# Altium schematic symbol library Schematic Library.SchLib: 22 symbols
Pins are listed as number, name and electrical type; pins without a type are passive.

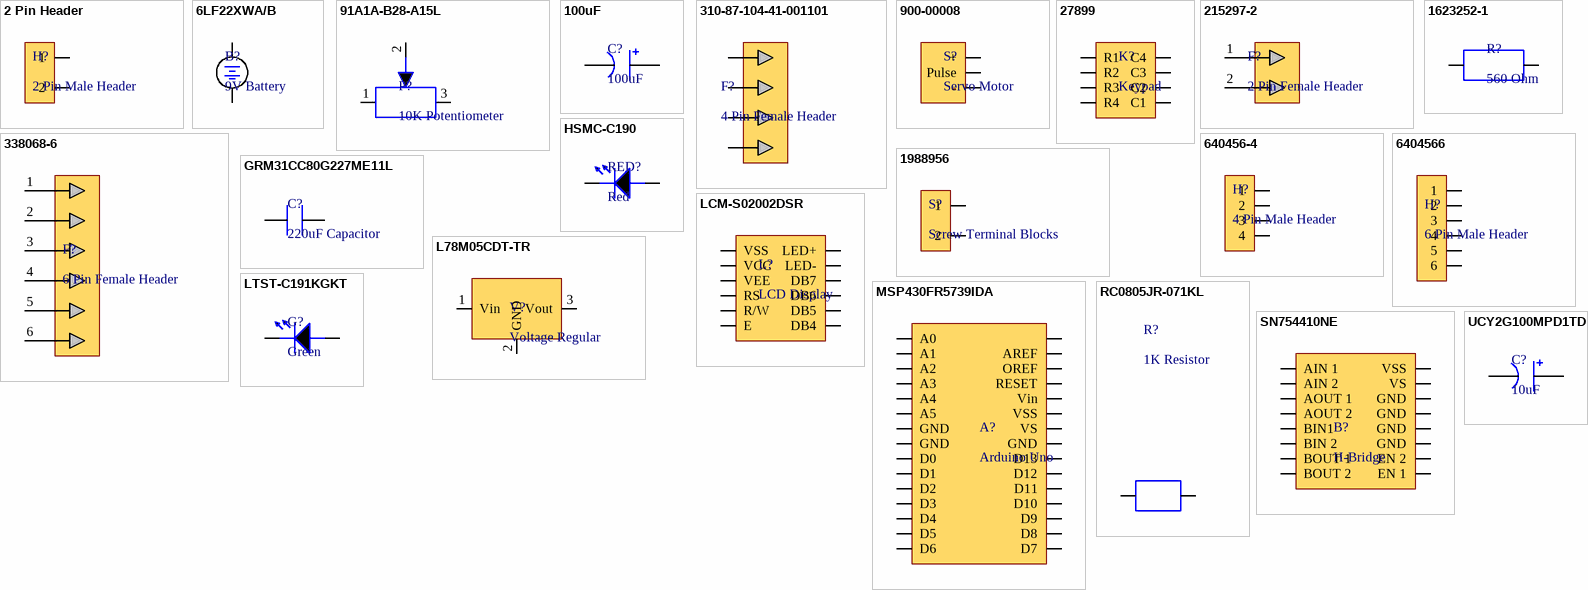
[diagram p0: symbols 2 Pin Header to UCY2G100MPD1TD]

## 2 Pin Header
designator H?, comment 2 Pin Male Header
Supplier 1: Digi-Key; Supplier Part Number 1: 900-0022232021-ND
footprint DC Motor
pins: 1, 2

## 6LF22XWA/B
designator B?, comment 9V Battery
BATTERY ALKALINE 9V; Manufacturer: Panasonic; Manufacturer Part Number: 6LF22XWA/B; Supplier 1: Digi-Key; Supplier Part Number 1: P687-ND; Stock 1: 27519; Pricing 1: 1=1.90000, 10=1.58300, 50=1.37860, 210=1.30290, 420=1.21200, 630=1.14383, 1050=1.07565, 2520=1.00748 (USD); RoHS: No; Weight: 45.59g; Min Operating Temperature: -20°C; Max Operating Temperature: 54°C; Termination: Snap in; Package Quantity: 210; Voltage Rating: 9V; Chemistry/Technology: Alkaline; Packaging: Bulk; Output Voltage: 9V; Length: 1.91inch; Height: 0.69inch; Width: 0.51inch; Lead Free: Lead Free; ComponentLink1URL: http://www.mouser.com/ds/2/315/panasonic_alkaline_batteries_9v_series_6lf22xwa-541606.pdf?src-supplier=Mouser; ComponentLink1Description: http://www.mouser.com/ds/2/315/panasonic_alkaline_batteries_9v_series_6lf22xwa-541606.pdf?src-supplier=Mouser; ComponentLink2URL: https://na.industrial.panasonic.com/sites/default/pidsa/files/downloads/files/panasonic-6lf22xwa-datasheet.pdf?src-supplier=Digi-Key; ComponentLink2Description: https://na.industrial.panasonic.com/sites/default/pidsa/files/downloads/files/panasonic-6lf22xwa-datasheet.pdf?src-supplier=Digi-Key
footprint 9V Battery
pins: 1 +, 2 -

## 91A1A-B28-A15L
designator P?, comment 10K Potentiometer
POT 10K OHM 2W CERMET LINEAR; Manufacturer: Bourns; Manufacturer Part Number: 91A1A-B28-A15L; Resistance: 10kR; Tolerance: 10%; Number of Gangs: 1; Temperature Coefficient: 150ppm/°C; Linearity: 5%; Actuator Length: 0.875inch; Actuator Diameter: 0.25inch; Ratings: IP40; Supplier 1: Digi-Key; Supplier Part Number 1: 91A1A-B28-A15L-ND; Stock 1: 109; Pricing 1: 1=5.91000, 10=5.41800, 25=4.82640, 50=4.53100, 100=4.13700, 250=3.34900, 500=3.15200, 1000=2.95500 (USD); RoHS: Yes; Mount: Panel,Through Hole; Weight: 0.447979oz; Contact Plating: Tin; Min Operating Temperature: -40°C; Max Operating Temperature: 125°C; Package Quantity: 5; Power Rating: 2W; Packaging: Bulk; Composition: Cermet; Taper: Linear; Number of Turns: 1; Termination: Pin; Military Standard: Not; Max Power Dissipation: 2W; Type: Potentiometer; Length: 34.93mm; Height: 12.7mm; Width: 15.88mm; Depth: 15.88mm; REACH SVHC: No SVHC; ComponentLink1URL: https://datasheet.ciiva.com/2153/91-95-2153328.pdf?src-supplier=Digi-Key; ComponentLink1Description: https://datasheet.ciiva.com/2153/91-95-2153328.pdf?src-supplier=Digi-Key; ComponentLink2URL: https://datasheet.ciiva.com/48425/91-95-series-eng-tds-48425289.pdf?src-supplier=Distrelec; ComponentLink2Description: https://datasheet.ciiva.com/48425/91-95-series-eng-tds-48425289.pdf?src-supplier=Distrelec; ComponentLink3URL: https://datasheet.ciiva.com/8057/91-95-8057790.pdf?src-supplier=Element14; ComponentLink3Description: https://datasheet.ciiva.com/8057/91-95-8057790.pdf?src-supplier=Element14; ComponentLink4URL: https://datasheet.ciiva.com/30090/90sers-30090414.pdf?src-supplier=Onlinecomponents.com; ComponentLink4Description: https://datasheet.ciiva.com/30090/90sers-30090414.pdf?src-supplier=Onlinecomponents.com; ComponentLink5URL: https://datasheet.ciiva.com/48692/001055304-da-01-en-pot-91a1a-b28-a15l-10kohm-16mm-2w-cermet-48692807.pdf?src-supplier=Conrad; ComponentLink5Description: https://datasheet.ciiva.com/48692/001055304-da-01-en-pot-91a1a-b28-a15l-10kohm-16mm-2w-cermet-48692807.pdf?src-supplier=Conrad
footprint 10K
pins: 1, 2, 3

## 100uF
designator C?
Supplier 1: Digi-Key; Supplier Part Number 1: 493-3938-6-ND
footprint 100uF
pins: 1, 2

## 310-87-104-41-001101
designator F?, comment 4 Pin Female Header
CONN SOCKET 4POS 0.1 GOLD PCB; Manufacturer: Preci-Dip; Manufacturer Part Number: 310-87-104-41-001101; Color: Black; Max Current Rating: 3A; Contact Resistance: 10mR; Number of Positions: 4; Max Voltage Rating (AC): 100V; Pitch: 2.54mm; RoHS: Yes; Mount: Through Hole; Contact Plating: Gold; Contact Material: Copper; Housing Material: Polychlorinated; Housing Color: Black; Min Operating Temperature: -55°C; Max Operating Temperature: 125°C; Package Quantity: 3400; Number of Rows: 1; Packaging: Bulk; Termination: Solder; Number of Contacts: 4; Connector Type: Socket; Orientation: Straight; Gender: Female; Length: 10.16mm; Depth: 2.54mm; ComponentLink1URL: https://datasheet.ciiva.com/6788/310-series-6788296.pdf?src-supplier=Digi-Key; ComponentLink1Description: https://datasheet.ciiva.com/6788/310-series-6788296.pdf?src-supplier=Digi-Key; Supplier 1: Future Electronics; Supplier Part Number 1: PPTC081LFBN-RC-TRAY
footprint 4 Female Header Pin
pins: 1, 2, 3, 4

## 900-00008
designator S?, comment Servo Motor
GEARMOTOR 6VDC SERVO; Manufacturer: Parallax; Manufacturer Part Number: 900-00008; Operating Supply Voltage: 6V; Mounting Hole Spacing: 1.988inch; Approvals: CE; Supplier 1: RSComponents; Supplier Part Number 1: 7813046; Stock 1: 60; Pricing 1: 1=12.03000, 5=11.56000, 10=11.07000 (GBP); RoHS: Yes; Weight: 0.094lb; Min Operating Temperature: -10°C; Max Operating Temperature: 50°C; Package Quantity: 1; Termination: Wire Leads; Length: 406mm; Height: 1inch; Width: 55.8mm; Depth: 19mm; ComponentLink1URL: https://datasheet.ciiva.com/4927/crservo-8470-4927809.pdf?src-supplier=Mouser; ComponentLink1Description: https://datasheet.ciiva.com/4927/crservo-8470-4927809.pdf?src-supplier=Mouser; ComponentLink2URL: https://datasheet.ciiva.com/30483/0900766b8123f8a1-30483945.pdf?src-supplier=RSComponents; ComponentLink2Description: https://datasheet.ciiva.com/30483/0900766b8123f8a1-30483945.pdf?src-supplier=RSComponents; ComponentLink3URL: https://datasheet.ciiva.com/27048/283039-27048842.pdf?src-supplier=Jameco; ComponentLink3Description: https://datasheet.ciiva.com/27048/283039-27048842.pdf?src-supplier=Jameco; ComponentLink4URL: https://datasheet.ciiva.com/3330/900-00008-eng-tds-3330493.pdf?src-supplier=Distrelec; ComponentLink4Description: https://datasheet.ciiva.com/3330/900-00008-eng-tds-3330493.pdf?src-supplier=Distrelec; ComponentLink5URL: https://datasheet.ciiva.com/2099/900-00008-continuous-rotation-servo-documentation-v2-2-2099203.pdf?src-supplier=Digi-Key; ComponentLink5Description: https://datasheet.ciiva.com/2099/900-00008-continuous-rotation-servo-documentation-v2-2-2099203.pdf?src-supplier=Digi-Key
footprint Servo Motor
pins: 1 +, 2 Pulse, 3 -

## 27899
designator K?, comment Keypad
SWITCH KEYPAD 16 KEY NON-ILLUM; Manufacturer: Parallax; Manufacturer Part Number: 27899; Max Current Rating: 30mA; Supplier 1: Digi-Key; Supplier Part Number 1: 27899PAR-ND; Stock 1: 34; Pricing 1: 1=6.50000 (USD); RoHS: Yes; Package Quantity: 1; ComponentLink1URL: https://datasheet.ciiva.com/19453/2161473-19453254.pdf?src-supplier=Jameco; ComponentLink1Description: https://datasheet.ciiva.com/19453/2161473-19453254.pdf?src-supplier=Jameco; ComponentLink2URL: https://datasheet.ciiva.com/12466/27899-4x4matrixmembranekeypad-v1-2-33055-12466600.pdf?src-supplier=Mouser; ComponentLink2Description: https://datasheet.ciiva.com/12466/27899-4x4matrixmembranekeypad-v1-2-33055-12466600.pdf?src-supplier=Mouser
footprint Keypad (SOIC, 8-Leads, Body 10.30x7.50mm, Pitch 1.27mm, IPC Medium Density)
pins: 1 R1, 2 R2, 3 R3, 4 R4, 5 C1, 6 C2, 7 C3, 8 C4

## 215297-2
designator F?, comment 2 Pin Female Header
Conn Socket Strip SKT 2 POS 2.54mm Solder ST Thru-Hole Automotive Tray; Manufacturer: TE Connectivity; Manufacturer Part Number: 215297-2; Color: Green; Current Rating: 3A; Contact Resistance: 12mR; Voltage Rating: 250V; Connector Type: Receptacle,Connector,Socket; Number of Positions: 2; Gender: Receptacle; PCB Mount Retention: With; PCB Mounting Orientation: Vertical; Sealable: No (Without); Stackable: Yes; PCB Thickness: 1.6mm; Tail Length: 3.1mm; Supplier 1: Digi-Key; Supplier Part Number 1: A106649-ND; Stock 1: 8242; Pricing 1: 1=0.72000, 10=0.63200, 100=0.54560, 500=0.44640, 1000=0.39680, 5000=0.37200 (USD); RoHS: Yes; Mount: Through Hole; Contact Plating: Gold,Tin; Contact Material: Bronze; Housing Color: Black; Housing Material: Polyester; Contact Shape: Square; Min Operating Temperature: -55°C; Max Operating Temperature: 105°C; Number of Rows: 1; Packaging: Tray; Contact Gender: Female; Package Quantity: 352; Termination: Solder; Number of Contacts: 2; Orientation: Straight; Contact Current Rating: 3A; Length: 5.08mm; Height: 7mm; Pitch: 2.54mm; Depth: 2.52mm; Contact Post Length: 3.1mm; REACH SVHC: No SVHC; ELV: Compliant; Flammability Rating: UL94 V-0; ComponentLink1URL: https://datasheet.ciiva.com/30185/2152972-30185520.pdf?src-supplier=Onlinecomponents.com; ComponentLink1Description: https://datasheet.ciiva.com/30185/2152972-30185520.pdf?src-supplier=Onlinecomponents.com; ComponentLink2URL: https://datasheet.ciiva.com/11747/0900766b805762f6-11747850.pdf?src-supplier=RSComponents; ComponentLink2Description: https://datasheet.ciiva.com/11747/0900766b805762f6-11747850.pdf?src-supplier=RSComponents; ComponentLink3URL: https://datasheet.ciiva.com/29369/001094888-da-01-en-buchsenleiste-1-reihig-0-0215297-2-29369951.pdf?src-supplier=Conrad; ComponentLink3Description: https://datasheet.ciiva.com/29369/001094888-da-01-en-buchsenleiste-1-reihig-0-0215297-2-29369951.pdf?src-supplier=Conrad; ComponentLink4URL: https://datasheet.ciiva.com/14120/215297serie-eng-tds-14120828.pdf?src-supplier=Distrelec; ComponentLink4Description: https://datasheet.ciiva.com/14120/215297serie-eng-tds-14120828.pdf?src-supplier=Distrelec; ComponentLink5URL: https://datasheet.ciiva.com/6857/eng-cd-215297-d-basefilename-6857455.pdf?src-supplier=Digi-Key; ComponentLink5Description: https://datasheet.ciiva.com/6857/eng-cd-215297-d-basefilename-6857455.pdf?src-supplier=Digi-Key
footprint 2 Pin Female Header
pins: 1, 2

## 338068-6
designator F?, comment 6 Pin Female Header
CONN FMALE-ON-BRD 6POS VERT T/H; Manufacturer: AMP - TE CONNECTIVITY; Manufacturer Part Number: 338068-6; Supplier 1: Digi-Key; Supplier Part Number 1: A121761-ND
footprint 6 Pin Female Header
pins: 1, 2, 3, 4, 5, 6

## 640456-4
designator H?, comment 4 Pin Male Header
CONN HEADER VERT 4POS 2.54MM; Manufacturer: TE Connectivity; Manufacturer Part Number: 640456-4; Contact Resistance: 6mR; Max Voltage Rating (AC): 250V; Current Rating: 5A; Number of Poles: 4; Connector Type: Plug,Header,Pin; Backwall/Post Interruptions: No (Without); Connector System: Wire-to-Board; Plating Thickness: 3.81um; Circuit Application: Signal; Contact Post Length: 3.56mm; PCB Thickness: 0.063inch; Tail Length: 0.14inch; Approvals: CSA; Supplier 1: Digi-Key; Supplier Part Number 1: A1922-ND; Stock 1: 54928; Pricing 1: 1=0.23000, 10=0.21400, 100=0.14850, 500=0.12568, 1000=0.10283, 5000=0.09141, 10000=0.08284 (USD); RoHS: Yes; Mount: Through Hole; Contact Plating: Tin; Contact Material: Copper Alloy; Color: Natural,Beige,White; Housing Color: Natural; Housing Material: Polyester; Contact Shape: Square; Min Operating Temperature: -67°C; Max Operating Temperature: 221°C; Packaging: Bulk; Number of Rows: 1; Voltage Rating (AC): 250V; Contact Gender: Male; Package Quantity: 5000; Voltage Rating: 250V; Fastening Type: Friction; Number of Positions: 4; Termination: Solder; Number of Contacts: 4; Working Voltage: 250V; Orientation: Straight; Contact Retention: No (Without); Mating Alignment: No (Without); Mating Retention: No (Without); PCB Mount Alignment: No (Without); Sealable: No (Without); Strain Relief: No (Without); Contact Current Rating: 5A; Length: 12.7mm; Height: 7.87mm; Pitch: 2.54mm; Lead Pitch: 2.54mm; Contact Mating Length: 0.295inch; Depth: 5.72mm; Radiation Hardening: No; REACH SVHC: No SVHC; Flammability Rating: UL94 V-0; ComponentLink1URL: https://datasheet.ciiva.com/36859/38054-36859312.pdf?src-supplier=Farnell; ComponentLink1Description: https://datasheet.ciiva.com/36859/38054-36859312.pdf?src-supplier=Farnell; ComponentLink2URL: https://datasheet.ciiva.com/19462/613958-19462402.pdf?src-supplier=Jameco; ComponentLink2Description: https://datasheet.ciiva.com/19462/613958-19462402.pdf?src-supplier=Jameco; ComponentLink3URL: https://datasheet.ciiva.com/25618/0900766b80eb7fdd-25618242.pdf?src-supplier=RSComponents; ComponentLink3Description: https://datasheet.ciiva.com/25618/0900766b80eb7fdd-25618242.pdf?src-supplier=RSComponents; ComponentLink4URL: https://datasheet.ciiva.com/16286/eng-ds-82056-mta-0608-16286228.pdf?src-supplier=Future+Electronics; ComponentLink4Description: https://datasheet.ciiva.com/16286/eng-ds-82056-mta-0608-16286228.pdf?src-supplier=Future+Electronics; ComponentLink5URL: https://datasheet.ciiva.com/11746/0900766b80027008-11746331.pdf?src-supplier=RSComponents; ComponentLink5Description: https://datasheet.ciiva.com/11746/0900766b80027008-11746331.pdf?src-supplier=RSComponents; ComponentLink6URL: https://datasheet.ciiva.com/14156/mta-cst-100-sl-156-eng-datasheet-14156822.pdf?src-supplier=Distrelec; ComponentLink6Description: https://datasheet.ciiva.com/14156/mta-cst-100-sl-156-eng-datasheet-14156822.pdf?src-supplier=Distrelec; ComponentLink7URL: https://datasheet.ciiva.com/14637/70083644-14637814.pdf?src-supplier=Allied+Electronics; ComponentLink7Description: https://datasheet.ciiva.com/14637/70083644-14637814.pdf?src-supplier=Allied+Electronics; ComponentLink8URL: https://datasheet.ciiva.com/709/eng-cd-640456-w2-709689.pdf?src-supplier=Digi-Key; ComponentLink8Description: https://datasheet.ciiva.com/709/eng-cd-640456-w2-709689.pdf?src-supplier=Digi-Key; ComponentLink9URL: https://datasheet.ciiva.com/16656/eng-ds-82056-mta-0608-16656524.pdf?src-supplier=Avnet+Europe; ComponentLink9Description: https://datasheet.ciiva.com/16656/eng-ds-82056-mta-0608-16656524.pdf?src-supplier=Avnet+Europe
footprint Header
pins: 1, 2, 3, 4

## 1623252-1
designator R?, comment 560 Ohm
Res Thick Film 0805 560 Ohm 1% 0.125W(1/8W) ±100ppm/°C Molded SMD; Manufacturer: TE Connectivity; Manufacturer Part Number: 1623252-1; Resistance: 560R; Max Power Dissipation: 125mW; Supplier 1: Digi-Key; Supplier Part Number 1: A126376CT-ND; Stock 1: 18530; Pricing 1: 1=0.10000, 10=0.04900, 100=0.02000, 1000=0.00898, 2500=0.00780 (USD); RoHS: Yes; Case/Package: 0805; Min Operating Temperature: -55°C; Max Operating Temperature: 125°C; Tolerance: 1%; Package Quantity: 5000; Packaging: Tape and Reel; Composition: Thick Film; Number of Terminations: 2; Temperature Coefficient: 100ppm/°C; Military Standard: Not; Length: 0.079inch; Height: 0.026inch; Width: 0.049inch; Depth: 1.25mm; Radiation Hardening: No; ComponentLink1URL: https://datasheet.ciiva.com/2530/eng-cd-1623252-ba-2530165.pdf?src-supplier=Digi-Key; ComponentLink1Description: https://datasheet.ciiva.com/2530/eng-cd-1623252-ba-2530165.pdf?src-supplier=Digi-Key; ComponentLink2URL: https://datasheet.ciiva.com/16904/eng-ds-1773204-f-16904630.pdf?src-supplier=Avnet+Europe; ComponentLink2Description: https://datasheet.ciiva.com/16904/eng-ds-1773204-f-16904630.pdf?src-supplier=Avnet+Europe; ComponentLink3URL: https://datasheet.ciiva.com/8903/eng-ds-1773204-f-8903597.pdf?src-supplier=Avnet; ComponentLink3Description: https://datasheet.ciiva.com/8903/eng-ds-1773204-f-8903597.pdf?src-supplier=Avnet
footprint 560
pins: 1, 2

## 1988956
designator S?, comment Screw Terminal Blocks
TERM BLOCK 2POS 45DEG 3.5MM PCB; Manufacturer: Phoenix Contact; Manufacturer Part Number: 1988956; Number of Poles: 2; Voltage Rating: 160V; Max Current Rating: 17.5A; Number of Levels: 1; Current: 10A; Voltage: 300V; Gender: Male; Wire Gauge (Max): 26AWG; Wire Gauge (Min): 16AWG; Approvals: UL; RoHS: Yes; Mount: Through Hole; Number of Pins: 2; Weight: 0.034216oz; Color: Green; Material: Polyamide; Housing Color: Green; Housing Material: Polyamide; Contact Material: Tin; Package Quantity: 250; Packaging: Bulk; Number of Rows: 1; Max Supply Voltage: 160V; Current Rating: 17.5A; Number of Positions Per Level: 2; Termination: Screw; Number of Positions: 2; Number of Contacts: 2; Number of Circuits: 2; Orientation: Straight; Length: 7mm; Height: 11.2mm; Width: 13.7mm; Pitch: 3.5mm; Depth: 11.2mm; Lead Free: Lead Free; Flammability Rating: UL94 V-0; ComponentLink1URL: https://datasheet.ciiva.com/16051/1988956-16051359.pdf?src-supplier=Onlinecomponents.com; ComponentLink1Description: https://datasheet.ciiva.com/16051/1988956-16051359.pdf?src-supplier=Onlinecomponents.com; ComponentLink2URL: https://datasheet.ciiva.com/26340/567541-da-01-de-printklemme-1988956-250-st-26340451.pdf?src-supplier=Conrad; ComponentLink2Description: https://datasheet.ciiva.com/26340/567541-da-01-de-printklemme-1988956-250-st-26340451.pdf?src-supplier=Conrad; ComponentLink3URL: https://datasheet.ciiva.com/824/combiconcompactseries-824224.pdf?src-supplier=Digi-Key; ComponentLink3Description: https://datasheet.ciiva.com/824/combiconcompactseries-824224.pdf?src-supplier=Digi-Key; ComponentLink4URL: https://datasheet.ciiva.com/14609/70055171-14609100.pdf?src-supplier=Allied+Electronics; ComponentLink4Description: https://datasheet.ciiva.com/14609/70055171-14609100.pdf?src-supplier=Allied+Electronics; Supplier 1: RSComponents; Supplier Part Number 1: 7176659
footprint Screw
pins: 1, 2

## 6404566
designator H?, comment 6 Pin Male Header
TE Connectivity MTA-100 Series, 2.54mm Pitch 6 Way 1 Row Straight PCB Header, Solder Termination, 5A; Manufacturer Part Number: 6404566; Contact Resistance: 6mR; Max Voltage Rating (AC): 250V; Number of Positions: 6; Connector Type: Connector,Pin,Plug,Header; Backwall/Post Interruptions: No (Without); Connector System: Wire-to-Board; Plating Thickness: 3.81um; PCB Mount Retention: Without; PCB Mounting Orientation: Vertical; Circuit Application: Signal; Mating Connector Lock: Yes (With); Contact Post Length: 3.56mm; PCB Thickness: 0.063inch; Tail Length: 0.14inch; Approvals: CSA; Supplier 1: Digi-Key; Supplier Part Number 1: A1923-ND; Manufacturer: TE Connectivity; Stock 1: 29664; Pricing 1: 1=0.310000, 10=0.294000, 100=0.206100, 500=0.176700, 1000=0.147250, 5000=0.126210, 10000=0.117800 (USD); RoHS: Yes; Mount: Through Hole; Contact Material: Copper Alloy; Contact Plating: Tin; Color: Beige,White; Housing Color: Natural; Housing Material: Polyester; Contact Shape: Square; Insulation Material: Thermoplastic; Insulation Color: Natural; Min Operating Temperature: -67°C; Max Operating Temperature: 221°C; Package Quantity: 2000; Packaging: Bulk; Contact Gender: Male; Number of Rows: 1; Fastening Type: Friction; Voltage Rating (AC): 250V; Termination: Solder; Number of Contacts: 6; Orientation: Straight; Contact Retention: No (Without); Mating Alignment: No (Without); Mating Retention: No (Without); PCB Mount Alignment: No (Without); Sealable: No (Without); Strain Relief: No (Without); Shrouded: No (Without); Contact Current Rating: 5A; Current Rating: 5A; Voltage Rating: 250V; Gender: Male; Panel Mount Retention: No (Without); Contact Style: Straight; Mounting Ears: No (Without); Length: 17.78mm; Height: 7.87mm; Pitch: 2.54mm; Depth: 5.72mm; Contact Mating Length: 7.49mm; Radiation Hardening: No; ELV: Compliant; Lead Free: Lead Free; Flammability Rating: UL94 V-0; REACH SVHC: No SVHC; ComponentLink1URL: https://datasheet.ciiva.com/11750/0900766b80027008-11750977.pdf?src-supplier=RSComponents; ComponentLink1Description: https://datasheet.ciiva.com/11750/0900766b80027008-11750977.pdf?src-supplier=RSComponents; ComponentLink2URL: https://datasheet.ciiva.com/25618/0900766b80eb7fdd-25618163.pdf?src-supplier=RSComponents; ComponentLink2Description: https://datasheet.ciiva.com/25618/0900766b80eb7fdd-25618163.pdf?src-supplier=RSComponents; ComponentLink3URL: https://datasheet.ciiva.com/3118/eng-ds-82056-mta-0608-3118501.pdf?src-supplier=Avnet; ComponentLink3Description: https://datasheet.ciiva.com/3118/eng-ds-82056-mta-0608-3118501.pdf?src-supplier=Avnet; ComponentLink4URL: https://datasheet.ciiva.com/16505/eng-ds-82056-mta-0608-16505350.pdf?src-supplier=Avnet+Asia; ComponentLink4Description: https://datasheet.ciiva.com/16505/eng-ds-82056-mta-0608-16505350.pdf?src-supplier=Avnet+Asia; ComponentLink5URL: https://datasheet.ciiva.com/16658/eng-ds-82056-mta-0608-16658438.pdf?src-supplier=Avnet+Europe; ComponentLink5Description: https://datasheet.ciiva.com/16658/eng-ds-82056-mta-0608-16658438.pdf?src-supplier=Avnet+Europe; ComponentLink6URL: https://datasheet.ciiva.com/14156/04384301-14156824.pdf?src-supplier=Distrelec; ComponentLink6Description: https://datasheet.ciiva.com/14156/04384301-14156824.pdf?src-supplier=Distrelec; ComponentLink7URL: https://datasheet.ciiva.com/49275/613974-49275211.pdf?src-supplier=Jameco; ComponentLink7Description: https://datasheet.ciiva.com/49275/613974-49275211.pdf?src-supplier=Jameco; ComponentLink8URL: https://datasheet.ciiva.com/709/eng-cd-640456-w2-709708.pdf?src-supplier=Digi-Key; ComponentLink8Description: https://datasheet.ciiva.com/709/eng-cd-640456-w2-709708.pdf?src-supplier=Digi-Key; ComponentLink9URL: https://datasheet.ciiva.com/16401/eng-ds-82056-mta-0608-16401293.pdf?src-supplier=Future+Electronics; ComponentLink9Description: https://datasheet.ciiva.com/16401/eng-ds-82056-mta-0608-16401293.pdf?src-supplier=Future+Electronics
footprint 6 pin header
pins: 1, 2, 3, 4, 5, 6

## GRM31CC80G227ME11L
designator C?, comment 220uF Capacitor
CAP CER 220UF 4V X6S 1206; Manufacturer: Murata; Manufacturer Part Number: GRM31CC80G227ME11L; Tolerance: 20%; Supplier 1: Digi-Key; Supplier Part Number 1: 490-13250-1-ND; Stock 1: 75362; Pricing 1: 1=1.23000, 10=0.96900, 100=0.72680, 500=0.54916, 1000=0.48456 (USD); RoHS: Yes; Mount: Surface Mount; Case/Package: 1206; Case Code (Metric): 3216; Case Code (Imperial): 1206; Min Operating Temperature: -55°C; Max Operating Temperature: 105°C; Packaging: Tape and Reel; Capacitance: 220uF; Voltage Rating: 4V; Voltage Rating (DC): 4V; Dielectric: X6S; Length: 0.126inch; Width: 0.063inch; Thickness: 0.075inch; ComponentLink1URL: http://search.murata.co.jp/Ceramy/image/img/A01X/partnumbering_e_01.pdf?src-supplier=Digi-Key; ComponentLink1Description: http://search.murata.co.jp/Ceramy/image/img/A01X/partnumbering_e_01.pdf?src-supplier=Digi-Key; ComponentLink2URL: http://search.murata.co.jp/Ceramy/image/img/A01X/G101/ENG/GRM31CC80G227ME11-01.pdf?src-supplier=Digi-Key; ComponentLink2Description: http://search.murata.co.jp/Ceramy/image/img/A01X/G101/ENG/GRM31CC80G227ME11-01.pdf?src-supplier=Digi-Key
footprint 220uF (Chip Capacitor, 2-Leads, Body 1.00x0.50mm, IPC Medium Density)
pins: 1, 2

## HSMC-C190
designator RED?, comment Red
AVAGO TECHNOLOGIES   HSMC-C190.   LED, SMD, RED; Manufacturer: Broadcom Avago; Lens Color: White; Luminous Intensity: 90mcd; Viewing Angle: 170°; Forward Voltage: 1.9V; Wavelength: 626nm; Lens Style: Rectangular,Diffused,Colorless; Power Dissipation: 60mW; Forward Current: 20mA; Lens Transparency: Diffused; Number of Elements: 1; Reverse Voltage: 5V; Manufacturer Part Number: HSMC-C190; Mount: Surface Mount; Case/Package: 0603; Number of Pins: 2; Color: Red; Case Code (Metric): 1608; Case Code (Imperial): 0603; Min Operating Temperature: -40°C; Max Operating Temperature: 85°C; Packaging: Tape and Reel; Package Quantity: 1; Illumination Color: Red; Dominant Wavelength: 626nm; Test Current: 20mA; Voltage Rating (DC): 1.9V; Number of LEDs: 1; Power Rating: 60mW; Max Power Dissipation: 60mW; Length: 1.6mm; Height: 0.8mm; Depth: 0.8mm; Width: 0.8mm; Radiation Hardening: No; Lead Free: Lead Free; REACH SVHC: No SVHC; ComponentLink1URL: https://www.verical.com/server-webapp/html/getDatasheet?partID=128083&src-supplier=Verical; ComponentLink1Description: https://www.verical.com/server-webapp/html/getDatasheet?partID=128083&src-supplier=Verical; ComponentLink2URL: http://uk.rs-online.com/webdocs/0db8/0900766b80db8814.pdf?src-supplier=RSComponents; ComponentLink2Description: http://uk.rs-online.com/webdocs/0db8/0900766b80db8814.pdf?src-supplier=RSComponents; ComponentLink3URL: https://www.distrelec.biz/Web/Downloads/_t/ds/HSMx-C110-170-190-191-150_eng_tds.pdf?mime=application%2Fpdf&src-supplier=Distrelec; ComponentLink3Description: https://www.distrelec.biz/Web/Downloads/_t/ds/HSMx-C110-170-190-191-150_eng_tds.pdf?mime=application%2Fpdf&src-supplier=Distrelec; ComponentLink4URL: http://www.farnell.com/datasheets/55913.pdf?src-supplier=Element14; ComponentLink4Description: http://www.farnell.com/datasheets/55913.pdf?src-supplier=Element14; ComponentLink5URL: http://www.produktinfo.conrad.com/datenblaetter/175000-199999/180490-da-01-en-CHIP_LED_HSMC_C190_ROT.pdf?src-supplier=Conrad; ComponentLink5Description: http://www.produktinfo.conrad.com/datenblaetter/175000-199999/180490-da-01-en-CHIP_LED_HSMC_C190_ROT.pdf?src-supplier=Conrad; Supplier 1: RSComponents; Supplier Part Number 1: 1278415P
footprint RED
pins: 1 -, 2 +

## L78M05CDT-TR
designator V?, comment Voltage Regular
STMICROELECTRONICS   L78M05CDT-TR   LINEAR VOLTAGE REGULATOR, 5V, DPAK-3; Number of Outputs: 1; Min Input Voltage: 7V; Max Input Voltage: 35V; Output Current: 500mA; Dropout Voltage: 2V; Polarity: Positive; Quiescent Current: 6mA; Tolerance: 5%; Power Supply Rejection Ratio (PSRR): 62dB; Output Type: Fixed; Manufacturer: STMicroelectronics; Manufacturer Part Number: L78M05CDT-TR; Mount: Surface Mount; Case/Package: TO-252; Number of Pins: 3; Weight: 0.01lb; Contact Plating: Tin,Matte; Min Operating Temperature: 0°C; Max Operating Temperature: 150°C; Packaging: Tape and Reel; Package Quantity: 1; Output Voltage: 5V; Nominal Output Voltage: 5V; Max Output Current: 500mA; Number of Regulators: 1; Min Output Voltage: 5V; Max Output Voltage: 5V; Length: 6.6mm; Height: 2.4mm; Width: 6.2mm; Radiation Hardening: No; REACH SVHC: No SVHC; Lead Free: Lead Free; ComponentLink1URL: http://www.mouser.com/ds/2/389/l78m-974157.pdf?src-supplier=Mouser; ComponentLink1Description: http://www.mouser.com/ds/2/389/l78m-974157.pdf?src-supplier=Mouser; ComponentLink2URL: http://www.st.com/web/en/resource/technical/document/datasheet/CD00000447.pdf?src-supplier=Future+Electronics; ComponentLink2Description: http://www.st.com/web/en/resource/technical/document/datasheet/CD00000447.pdf?src-supplier=Future+Electronics; ComponentLink3URL: http://www.st.com/content/ccc/resource/technical/document/datasheet/d7/5f/dc/5c/d5/b6/48/7c/CD00000447.pdf/files/CD00000447.pdf/jcr:content/translations/en.CD00000447.pdf?src-supplier=Digi-Key; ComponentLink3Description: http://www.st.com/content/ccc/resource/technical/document/datasheet/d7/5f/dc/5c/d5/b6/48/7c/CD00000447.pdf/files/CD00000447.pdf/jcr:content/translations/en.CD00000447.pdf?src-supplier=Digi-Key; ComponentLink4URL: https://www.verical.com/server-webapp/html/getDatasheet?partID=111001&src-supplier=Verical; ComponentLink4Description: https://www.verical.com/server-webapp/html/getDatasheet?partID=111001&src-supplier=Verical; ComponentLink5URL: https://www.distrelec.biz/Web/Downloads/ta/_e/tbL78MxxC_data_e.pdf?mime=application%2Fpdf&src-supplier=Distrelec; ComponentLink5Description: https://www.distrelec.biz/Web/Downloads/ta/_e/tbL78MxxC_data_e.pdf?mime=application%2Fpdf&src-supplier=Distrelec; ComponentLink6URL: http://www.farnell.com/datasheets/1834365.pdf?src-supplier=Element14; ComponentLink6Description: http://www.farnell.com/datasheets/1834365.pdf?src-supplier=Element14; ComponentLink7URL: http://www.jameco.com/Jameco/Products/ProdDS/2021024.pdf?src-supplier=Jameco; ComponentLink7Description: http://www.jameco.com/Jameco/Products/ProdDS/2021024.pdf?src-supplier=Jameco; ComponentLink8URL: http://www.produktinfo.conrad.com/datenblaetter/1100000-1199999/001184659-da-01-en-IC_REG_LDO_5V_L78M05CDT_TR_TO_252_3_STM.pdf?src-supplier=Conrad; ComponentLink8Description: http://www.produktinfo.conrad.com/datenblaetter/1100000-1199999/001184659-da-01-en-IC_REG_LDO_5V_L78M05CDT_TR_TO_252_3_STM.pdf?src-supplier=Conrad; Supplier 1: RSComponents; Supplier Part Number 1: 2988592
footprint Voltage regulator (D-PAK, 4-Pads, Body 6.20x6.72mm (max), IPC Medium Density)
pins: 1 Vin, 2 GND, 3 Vout

## LCM-S02002DSR
designator L?, comment LCD Display
LUMEX         LCM-S02002DSR             Alphanumeric LCD, 20 x 2, Black on Yellow / Green, 5V, Parallel, English, Japanese, Reflective; Number of Characters: 40; Character Width: 3.2mm; Character Height: 5.55mm; Current Rating: 3mA; Viewing Area (height): 18.6mm; Viewing Area (width): 85mm; Number Of Characters Per Row: 20; Supplier 1: Digi-Key; Supplier Part Number 1: 67-1773-ND; Manufacturer: Lumex; Manufacturer Part Number: LCM-S02002DSR; Stock 1: 1580; Pricing 1: 1=19.54000, 10=18.71100, 100=12.47400, 500=11.22660 (USD); RoHS: Yes; Case/Package: Module; Weight: 0.002lb; Min Operating Temperature: 0°C; Max Operating Temperature: 50°C; Operating Supply Voltage: 5V; Package Quantity: 30; Packaging: Bulk; Interface: Parallel; Voltage Rating: 5V; Background Color: Green; Length: 4.75inch; Height: 37mm; Width: 116mm; REACH SVHC: No SVHC; Lead Free: Lead Free; ComponentLink1URL: https://datasheet.ciiva.com/2102/lcm-s02002dsr-2102207.pdf?src-supplier=Digi-Key; ComponentLink1Description: https://datasheet.ciiva.com/2102/lcm-s02002dsr-2102207.pdf?src-supplier=Digi-Key; ComponentLink2URL: https://datasheet.ciiva.com/1227/209733-1227266.pdf?src-supplier=Element14; ComponentLink2Description: https://datasheet.ciiva.com/1227/209733-1227266.pdf?src-supplier=Element14; ComponentLink3URL: https://datasheet.ciiva.com/1640/209733-1640883.pdf?src-supplier=Farnell; ComponentLink3Description: https://datasheet.ciiva.com/1640/209733-1640883.pdf?src-supplier=Farnell; ComponentLink4URL: https://datasheet.ciiva.com/14569/70127589-14569932.pdf?src-supplier=Allied+Electronics; ComponentLink4Description: https://datasheet.ciiva.com/14569/70127589-14569932.pdf?src-supplier=Allied+Electronics
footprint LCD Display (SOJ, 12-Leads, Body 13.00x8.66mm, Pitch 1.27mm, IPC Low Density)
pins: 1 VSS, 2 VCC, 3 VEE, 4 RS, 5 R/W, 6 E, 7 DB4, 8 DB5, 9 DB6, 10 DB7, 11 LED-, 12 LED+

## LTST-C191KGKT
designator G?, comment Green
LED Uni-Color Green 574nm 2-Pin Chip LED T/R; Manufacturer: Vishay Lite-On; Manufacturer Part Number: LTST-C191KGKT; Lens Color: Colorless; Power Rating: 75mW; Luminous Intensity: 35mcd; Viewing Angle: 130°; Lens Style: Rectangular,Colorless; Forward Current: 30mA; Forward Voltage: 2V; Dominant Wavelength: 571nm; Test Current: 20mA; Lens Transparency: Clear; Number of Elements: 1; Reverse Voltage: 5V; Supplier 1: Digi-Key; Stock 1: 788187; Pricing 1: 1=0.28, 10=0.201, 100=0.0954, 500=0.06364, 1000=0.04984, 2500=0.04878 (USD); Mount: Surface Mount; Case/Package: 0603; Number of Pins: 2; Color: Green; Case Code (Metric): 1608; Case Code (Imperial): 0603; Min Operating Temperature: -55°C; Max Operating Temperature: 85°C; Packaging: Tape and Reel; Package Quantity: 1; Illumination Color: Green; Power Dissipation: 75mW; Wavelength: 574nm; Number of LEDs: 1; Max Power Dissipation: 75mW; Length: 1.6mm; Height: 0.55mm; Width: 0.8mm; Depth: 0.8mm; Radiation Hardening: No; Lead Free: Lead Free; ComponentLink1URL: http://optoelectronics.liteon.com/upload/download/DS22-2000-228/LTST-C191KGKT.PDF?src-supplier=Digi-Key; ComponentLink1Description: http://optoelectronics.liteon.com/upload/download/DS22-2000-228/LTST-C191KGKT.PDF?src-supplier=Digi-Key; Supplier Part Number 1: 160-1446-1-ND
footprint Green
pins: 1 -, 2 +

## MSP430FR5739IDA
designator A?, comment Arduino Uno
16-bit Microcontrollers - MCU Mixed Signal MCU; Manufacturer: Texas Instruments; Manufacturer Part Number: MSP430FR5739IDA; Number of I/Os: 30; RAM Size: 1KB; Interface: I2C,SPI,IrDA,UART,USART,LIN,SCI; Number of Timers/Counters: 5; Frequency: 24MHz; Max Supply Voltage: 3.6V; Min Supply Voltage: 2V; Number of ADC Channels: 14; Oscillator Type: Internal; Data Bus Width: 16b; Number of SPI Channels: 3; Number of I2C Channels: 1; Watchdog Timer: Yes; Number of GPIO: 33; Memory Type: FRAM,ROMless; Memory Size: 16KB; Number of UART Channels: 2; Peripherals: Brown-out Detect/Reset,POR,PWM,WDT; Core Architecture: MSP430; RoHS: Yes; Case/Package: TSSOP; Number of Pins: 38; Min Operating Temperature: -40°C; Max Operating Temperature: 85°C; Packaging: Rail/Tube; Package Quantity: 40; Number of Programmable I/O: 30; Max Frequency: 24MHz; Number of A/D Converters: 14; Length: 12.6mm; Height: 1.05mm; Width: 6.2mm; Radiation Hardening: No; REACH SVHC: No SVHC; Lead Free: Lead Free; ComponentLink1URL: https://datasheet.ciiva.com/23612/1641704-23612987.pdf?src-supplier=Newark; ComponentLink1Description: https://datasheet.ciiva.com/23612/1641704-23612987.pdf?src-supplier=Newark; ComponentLink2URL: https://datasheet.ciiva.com/14380/msp430fr5720-14380986.pdf?src-supplier=Avnet; ComponentLink2Description: https://datasheet.ciiva.com/14380/msp430fr5720-14380986.pdf?src-supplier=Avnet; Supplier 1: Digi-Key; Supplier Part Number 1: 1050-1024-ND
footprint Arduino Uno
pins: 1 A0, 2 A1, 3 A2, 4 A3, 5 A4, 6 A5, 7 GND, 8 GND, 9 D0, 10 D1, 11 D2, 12 D3, 13 D4, 14 D5, 15 D6, 16 D7, 17 D8, 18 D9, 19 D10, 20 D11, 21 D12, 22 D13, 23 GND, 24 VS, 25 VSS, 26 Vin, 27 RESET, 28 OREF, 29 AREF, 30

## RC0805JR-071KL
designator R?, comment 1K Resistor
RES SMD 1K OHM 5% 1/8W 0805; Manufacturer: Yageo; Manufacturer Part Number: RC0805JR-071KL; Resistance: 1kR; Power Rating: 125mW; Voltage Rating: 150V; Temperature Coefficient: 100ppm/°C; Supplier 1: Newark; Stock 1: 0; Case/Package: 0805; Case Code (Imperial): 0805; Case Code (Metric): 2012; Contact Plating: Tin,Lead,Matte; Min Operating Temperature: -55°C; Max Operating Temperature: 155°C; Tolerance: 5%; Packaging: Tape and Reel; Termination: SMD/SMT; Composition: Thick Film; Military Standard: Not; Length: 2mm; Depth: 1.25mm; Radiation Hardening: No; REACH SVHC: Unknown; Lead Free: Lead Free; ComponentLink1URL: http://www.farnell.com/datasheets/2167052.pdf?src-supplier=Verical; ComponentLink1Description: http://www.farnell.com/datasheets/2167052.pdf?src-supplier=Verical; ComponentLink2URL: http://www.farnell.com/datasheets/2167052.pdf?src-supplier=Mouser; ComponentLink2Description: http://www.farnell.com/datasheets/2167052.pdf?src-supplier=Mouser; ComponentLink3URL: http://www.farnell.com/datasheets/2167052.pdf?src-supplier=Element14; ComponentLink3Description: http://www.farnell.com/datasheets/2167052.pdf?src-supplier=Element14; ComponentLink4URL: http://www.farnell.com/datasheets/444164.pdf?src-supplier=Element14; ComponentLink4Description: http://www.farnell.com/datasheets/444164.pdf?src-supplier=Element14; Supplier Part Number 1: 98K7729
footprint 1K
pins: 1, 2

## SN754410NE
designator B?, comment H-Bridge
TEXAS INSTRUMENTS - SN754410NE - IC, PERIPHERAL DRIVER, HALF-H, 1A, DIP16; Number of Outputs: 4; Output Voltage: 36V; Output Current: 1.1A; Min Supply Voltage: 4.5V; Max Power Dissipation: 2.075W; Max Output Current: 2A; Manufacturer: Texas Instruments; Manufacturer Part Number: SN754410NE; Mount: Through Hole; Case/Package: PDIP; Number of Pins: 16; Weight: 0.03357oz; Contact Plating: Gold; Min Operating Temperature: -40°C; Max Operating Temperature: 85°C; Packaging: Rail/Tube; Package Quantity: 25; Max Supply Voltage: 36V; Number of Circuits: 4; Number of Drivers: 4; Length: 19.8mm; Height: 4.57mm; Width: 6.35mm; Radiation Hardening: No; REACH SVHC: No SVHC; Lead Free: Lead Free; ComponentLink1URL: http://www.ti.com/general/docs/lit/getliterature.tsp?genericPartNumber=SN754410&&fileType=pdf&src-supplier=Avnet; ComponentLink1Description: http://www.ti.com/general/docs/lit/getliterature.tsp?genericPartNumber=SN754410&&fileType=pdf&src-supplier=Avnet; ComponentLink2URL: https://www.verical.com/server-webapp/html/getDatasheet?partID=186188&src-supplier=Verical; ComponentLink2Description: https://www.verical.com/server-webapp/html/getDatasheet?partID=186188&src-supplier=Verical; ComponentLink3URL: http://www.jameco.com/Jameco/Products/ProdDS/1054684.pdf?src-supplier=Jameco; ComponentLink3Description: http://www.jameco.com/Jameco/Products/ProdDS/1054684.pdf?src-supplier=Jameco; ComponentLink4URL: http://www.rapidonline.com/pdf/82-0203.pdf?src-supplier=Rapid+Electronics; ComponentLink4Description: http://www.rapidonline.com/pdf/82-0203.pdf?src-supplier=Rapid+Electronics; ComponentLink5URL: http://focus.ti.com/lit/ds/symlink/sn754410.pdf?src-supplier=Avnet+Europe; ComponentLink5Description: http://focus.ti.com/lit/ds/symlink/sn754410.pdf?src-supplier=Avnet+Europe; Supplier 1: Farnell; Supplier Part Number 1: 3118977
footprint H-Bridge (SOJ, 16-Leads, Body 13.00x8.66mm, Pitch 1.27mm, IPC Low Density)
pins: 1 AIN 1, 2 AIN 2, 3 AOUT 1, 4 AOUT 2, 5 BIN1, 6 BIN 2, 7 BOUT 1, 8 BOUT 2, 9 EN 1, 10 EN 2, 11 GND, 12 GND, 13 GND, 14 GND, 15 VS, 16 VSS

## UCY2G100MPD1TD
designator C?, comment 10uF
Cap Aluminum Lytic 10uF 400V 20% (10 X 16mm) Radial 5mm 150mA 8000h 105C Ammo Pack; Manufacturer: Nichicon; Manufacturer Part Number: UCY2G100MPD1TD; Life (Hours): 8000Hour; Lead Diameter: 0.6mm; Supplier 1: Digi-Key; Stock 1: 105637; Pricing 1: 1=0.84, 10=0.619, 100=0.4245 (USD); Mount: Through Hole; Case/Package: Radial; Min Operating Temperature: -40°C; Max Operating Temperature: 105°C; Package Quantity: 500; Packaging: Tape and Reel; Capacitance: 10uF; Tolerance: 20%; Voltage Rating: 400V; Ripple Current: 150mA; Termination: Radial; Diameter: 10mm; Height: 16mm; Lead Pitch: 5mm; Height - Seated (Max): 0.688inch; Radiation Hardening: No; Lead Free: Lead Free; ComponentLink1URL: http://nichicon-us.com/english/products/pdfs/e-mi_tape.pdf?src-supplier=Digi-Key; ComponentLink1Description: http://nichicon-us.com/english/products/pdfs/e-mi_tape.pdf?src-supplier=Digi-Key; Supplier Part Number 1: 493-13313-1-ND
footprint 10uF (Aluminum Electrolytic Capacitor, Body 4.30x4.30x6.30mm, IPC Low Density)
pins: 1, 2